# Altium schematic symbol library XC7A35T-2FGG484I.SchLib: 1 symbol
Pins are listed as number, name and electrical type; pins without a type are passive.

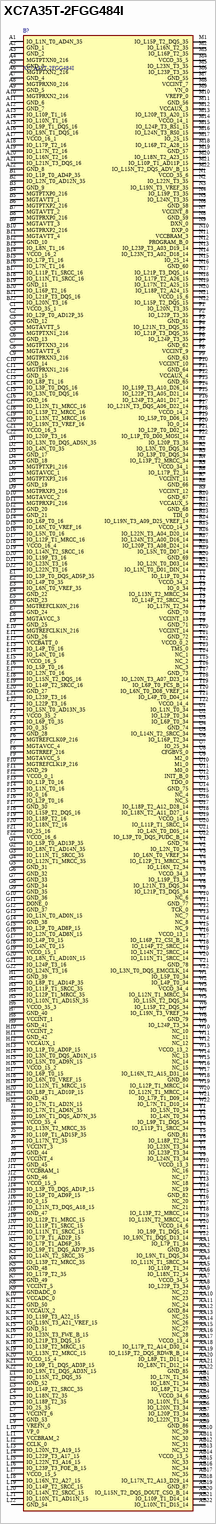
[diagram p0: symbol XC7A35T-2FGG484I]

## XC7A35T-2FGG484I
designator B?
XILINX - XC7A35T-2FGG484I - FPGA, ARTIX-7, 250 I/O, FPBGA-484; Manufacturer_Name: AMD; Geometry.Height: 2.6mm; Mouser Part Number: 217-XC7A35T-2FGG484I; Mouser Price/Stock: https://www.mouser.co.uk/ProductDetail/AMD-Xilinx/XC7A35T-2FGG484I?qs=rrS6PyfT74daD2uf98yQdQ%3D%3D; Manufacturer_Part_Number: XC7A35T-2FGG484I; Datasheet Link: https://www.xilinx.com/support/documentation/data_sheets/ds181_Artix_7_Data_Sheet.pdf
footprint BGA484C100P22X22_2300X2300X260
pins: A1 IO_L1N_T0_AD4N_35, A2 GND_1, A3 GND_2, A4 MGTPTXN0_216, A5 GND_3, A6 MGTPTXN2_216, A7 GND_4, A8 MGTPRXN0_216, A9 GND_5, A10 MGTPRXN2_216, A11 GND_6, A12 GND_7, A13 IO_L10P_T1_16, A14 IO_L10N_T1_16, A15 IO_L9P_T1_DQS_16, A16 IO_L9N_T1_DQS_16, A17 VCCO_16_1, A18 IO_L17P_T2_16, A19 IO_L17N_T2_16, A20 IO_L16N_T2_16, A21 IO_L21N_T3_DQS_16, A22 GND_8, AA1 IO_L7P_T1_34, AA2 GND_83, AA3 IO_L9N_T1_DQS_34, AA4 IO_L11N_T1_SRCC_34, AA5 IO_L10P_T1_34, AA6 IO_L18N_T2_34, AA7 VCCO_34_5, AA8 IO_L22P_T3_34, AA9 NC_22, AA10 NC_23, AA11 NC_24, AA12 GND_84, AA13 NC_25, AA14 NC_26, AA15 NC_27, AA16 NC_28, AA17 VCCO_13_4, AA18 IO_L17P_T2_A14_D30_14, AA19 IO_L15P_T2_DQS_RDWR_B_14, AA20 IO_L8P_T1_D11_14, AA21 IO_L8N_T1_D12_14, AA22 GND_85, AB1 IO_L7N_T1_34, AB2 IO_L8N_T1_34, AB3 IO_L8P_T1_34, AB4 VCCO_34_6, AB5 IO_L10N_T1_34, AB6 IO_L20N_T3_34, AB7 IO_L20P_T3_34, AB8 IO_L22N_T3_34, AB9 GND_86, AB10 NC_29, AB11 NC_30, AB12 NC_31, AB13 NC_32, AB14 VCCO_13_5, AB15 NC_33, AB16 NC_34, AB17 NC_35, AB18 IO_L17N_T2_A13_D29_14, AB19 GND_87, AB20 IO_L15N_T2_DQS_DOUT_CSO_B_14, AB21 IO_L10P_T1_D14_14, AB22 IO_L10N_T1_D15_14, B1 IO_L1P_T0_AD4P_35, B2 IO_L2N_T0_AD12N_35, B3 GND_9, B4 MGTPTXP0_216, B5 MGTAVTT_1, B6 MGTPTXP2_216, B7 MGTAVTT_2, B8 MGTPRXP0_216, B9 MGTAVTT_3, B10 MGTPRXP2_216, B11 MGTAVTT_4, B12 GND_10, B13 IO_L8N_T1_16, B14 VCCO_16_2, B15 IO_L7P_T1_16, B16 IO_L7N_T1_16, B17 IO_L11P_T1_SRCC_16, B18 IO_L11N_T1_SRCC_16, B19 GND_11, B20 IO_L16P_T2_16, B21 IO_L21P_T3_DQS_16, B22 IO_L20N_T3_16, C1 VCCO_35_1, C2 IO_L2P_T0_AD12P_35, C3 GND_12, C4 MGTAVTT_5, C5 MGTPTXN1_216, C6 GND_13, C7 MGTPTXN3_216, C8 MGTAVTT_6, C9 MGTPRXN3_216, C10 GND_14, C11 MGTPRXN1_216, C12 GND_15, C13 IO_L8P_T1_16, C14 IO_L3P_T0_DQS_16, C15 IO_L3N_T0_DQS_16, C16 GND_16, C17 IO_L12N_T1_MRCC_16, C18 IO_L13P_T2_MRCC_16, C19 IO_L13N_T2_MRCC_16, C20 IO_L19N_T3_VREF_16, C21 VCCO_16_3, C22 IO_L20P_T3_16, D1 IO_L3N_T0_DQS_AD5N_35, D2 IO_L4N_T0_35, D3 GND_17, D4 GND_18, D5 MGTPTXP1_216, D6 MGTAVCC_1, D7 MGTPTXP3_216, D8 GND_19, D9 MGTPRXP3_216, D10 MGTAVCC_2, D11 MGTPRXP1_216, D12 GND_20, D13 GND_21, D14 IO_L6P_T0_16, D15 IO_L6N_T0_VREF_16, D16 IO_L5N_T0_16, D17 IO_L12P_T1_MRCC_16, D18 VCCO_16_4, D19 IO_L14N_T2_SRCC_16, D20 IO_L19P_T3_16, D21 IO_L23N_T3_16, D22 IO_L22N_T3_16, E1 IO_L3P_T0_DQS_AD5P_35, E2 IO_L4P_T0_35, E3 IO_L6N_T0_VREF_35, E4 GND_22, E5 GND_23, E6 MGTREFCLK0N_216, E7 GND_24, E8 MGTAVCC_3, E9 GND_25, E10 MGTREFCLK1N_216, E11 GND_26, E12 VCCBATT_0, E13 IO_L4P_T0_16, E14 IO_L4N_T0_16, E15 VCCO_16_5, E16 IO_L5P_T0_16, E17 IO_L2N_T0_16, E18 IO_L15N_T2_DQS_16, E19 IO_L14P_T2_SRCC_16, E20 GND_27, E21 IO_L23P_T3_16, E22 IO_L22P_T3_16, F1 IO_L5N_T0_AD13N_35, F2 VCCO_35_2, F3 IO_L6P_T0_35, F4 IO_0_35, F5 GND_28, F6 MGTREFCLK0P_216, F7 MGTAVCC_4, F8 MGTRREF_216, F9 MGTAVCC_5, F10 MGTREFCLK1P_216, F11 GND_29, F12 VCCO_0_1, F13 IO_L1P_T0_16, F14 IO_L1N_T0_16, F15 IO_0_16, F16 IO_L2P_T0_16, F17 GND_30, F18 IO_L15P_T2_DQS_16, F19 IO_L18P_T2_16, F20 IO_L18N_T2_16, F21 IO_25_16, F22 VCCO_16_6, G1 IO_L5P_T0_AD13P_35, G2 IO_L8N_T1_AD14N_35, G3 IO_L11N_T1_SRCC_35, G4 IO_L12N_T1_MRCC_35, G5 GND_31, G6 GND_32, G7 GND_33, G8 GND_34, G9 GND_35, G10 GND_36, G11 DONE_0, G12 GND_37, G13 IO_L1N_T0_AD0N_15, G14 GND_38, G15 IO_L2P_T0_AD8P_15, G16 IO_L2N_T0_AD8N_15, G17 IO_L4P_T0_15, G18 IO_L4N_T0_15, G19 VCCO_15_1, G20 IO_L8N_T1_AD10N_15, G21 IO_L24P_T3_16, G22 IO_L24N_T3_16, H1 GND_39, H2 IO_L8P_T1_AD14P_35, H3 IO_L11P_T1_SRCC_35, H4 IO_L12P_T1_MRCC_35, H5 IO_L10N_T1_AD15N_35, H6 VCCO_35_3, H7 GND_40, H8 VCCINT_1, H9 GND_41, H10 VCCINT_2, H11 GND_42, H12 VCCAUX_1, H13 IO_L1P_T0_AD0P_15, H14 IO_L3N_T0_DQS_AD1N_15, H15 IO_L5N_T0_AD9N_15, H16 VCCO_15_2, H17 IO_L6P_T0_15, H18 IO_L6N_T0_VREF_15, H19 IO_L12N_T1_MRCC_15, H20 IO_L8P_T1_AD10P_15, H21 GND_43, H22 IO_L7N_T1_AD2N_15, J1 IO_L7N_T1_AD6N_35, J2 IO_L9N_T1_DQS_AD7N_35, J3 VCCO_35_4, J4 IO_L13N_T2_MRCC_35, J5 IO_L10P_T1_AD15P_35, J6 IO_L17N_T2_35, J7 VCCINT_3, J8 GND_44, J9 VCCINT_4, J10 GND_45, J11 VCCBRAM_1, J12 GND_46, J13 VCCO_15_3, J14 IO_L3P_T0_DQS_AD1P_15, J15 IO_L5P_T0_AD9P_15, J16 IO_0_15, J17 IO_L21N_T3_DQS_A18_15, J18 GND_47, J19 IO_L12P_T1_MRCC_15, J20 IO_L11P_T1_SRCC_15, J21 IO_L11N_T1_SRCC_15, J22 IO_L7P_T1_AD2P_15, K1 IO_L7P_T1_AD6P_35, K2 IO_L9P_T1_DQS_AD7P_35, K3 IO_L14N_T2_SRCC_35, K4 IO_L13P_T2_MRCC_35, K5 GND_48, K6 IO_L17P_T2_35, K7 GND_49, K8 VCCINT_5, K9 GNDADC_0, K10 VCCADC_0, K11 GND_50, K12 VCCAUX_2, K13 IO_L19P_T3_A22_15, K14 IO_L19N_T3_A21_VREF_15, K15 GND_51, K16 IO_L23N_T3_FWE_B_15, K17 IO_L21P_T3_DQS_15, K18 IO_L13P_T2_MRCC_15, K19 IO_L13N_T2_MRCC_15, K20 VCCO_15_4, K21 IO_L9P_T1_DQS_AD3P_15, K22 IO_L9N_T1_DQS_AD3N_15, L1 IO_L15N_T2_DQS_35, L2 GND_52, L3 IO_L14P_T2_SRCC_35, L4 IO_L18N_T2_35, L5 IO_L18P_T2_35, L6 IO_25_35, L7 VCCINT_6, L8 GND_53, L9 VREFN_0, L10 VP_0, L11 VCCBRAM_2, L12 CCLK_0, L13 IO_L20N_T3_A19_15, L14 IO_L22P_T3_A17_15, L15 IO_L22N_T3_A16_15, L16 IO_L23P_T3_FOE_B_15, L17 VCCO_15_5, L18 IO_L16N_T2_A27_15, L19 IO_L14P_T2_SRCC_15, L20 IO_L14N_T2_SRCC_15, L21 IO_L10N_T1_AD11N_15, L22 GND_54, M1 IO_L15P_T2_DQS_35, M2 IO_L16N_T2_35, M3 IO_L16P_T2_35, M4 VCCO_35_5, M5 IO_L23N_T3_35, M6 IO_L23P_T3_35, M7 GND_55, M8 VCCINT_7, M9 VN_0, M10 VREFP_0, M11 GND_56, M12 VCCAUX_3, M13 IO_L20P_T3_A20_15, M14 VCCO_14_1, M15 IO_L24P_T3_RS1_15, M16 IO_L24N_T3_RS0_15, M17 IO_25_15, M18 IO_L16P_T2_A28_15, M19 GND_57, M20 IO_L18N_T2_A23_15, M21 IO_L10P_T1_AD11P_15, M22 IO_L15N_T2_DQS_ADV_B_15, N1 VCCO_35_6, N2 IO_L22N_T3_35, N3 IO_L19N_T3_VREF_35, N4 IO_L19P_T3_35, N5 IO_L24N_T3_35, N6 GND_58, N7 VCCINT_8, N8 GND_59, N9 DXN_0, N10 DXP_0, N11 VCCBRAM_3, N12 PROGRAM_B_0, N13 IO_L23P_T3_A03_D19_14, N14 IO_L23N_T3_A02_D18_14, N15 IO_25_14, N16 GND_60, N17 IO_L21P_T3_DQS_14, N18 IO_L17P_T2_A26_15, N19 IO_L17N_T2_A25_15, N20 IO_L18P_T2_A24_15, N21 VCCO_15_6, N22 IO_L15P_T2_DQS_15, P1 IO_L20N_T3_35, P2 IO_L22P_T3_35, P3 GND_61, P4 IO_L21N_T3_DQS_35, P5 IO_L21P_T3_DQS_35, P6 IO_L24P_T3_35, P7 GND_62, P8 VCCINT_9, P9 GND_63, P10 VCCINT_10, P11 GND_64, P12 VCCAUX_4, P13 GND_65, P14 IO_L19P_T3_A10_D26_14, P15 IO_L22P_T3_A05_D21_14, P16 IO_L24P_T3_A01_D17_14, P17 IO_L21N_T3_DQS_A06_D22_14, P18 VCCO_14_2, P19 IO_L5P_T0_D06_14, P20 IO_0_14, P21 IO_L2P_T0_D02_14, P22 IO_L1P_T0_D00_MOSI_14, R1 IO_L20P_T3_35, R2 IO_L3N_T0_DQS_34, R3 IO_L3P_T0_DQS_34, R4 IO_L13P_T2_MRCC_34, R5 VCCO_34_1, R6 IO_L17P_T2_34, R7 VCCINT_11, R8 GND_66, R9 VCCINT_12, R10 GND_67, R11 VCCAUX_5, R12 GND_68, R13 TDI_0, R14 IO_L19N_T3_A09_D25_VREF_14, R15 VCCO_14_3, R16 IO_L22N_T3_A04_D20_14, R17 IO_L24N_T3_A00_D16_14, R18 IO_L20P_T3_A08_D24_14, R19 IO_L5N_T0_D07_14, R20 GND_69, R21 IO_L2N_T0_D03_14, R22 IO_L1N_T0_D01_DIN_14, T1 IO_L1P_T0_34, T2 VCCO_34_2, T3 IO_0_34, T4 IO_L13N_T2_MRCC_34, T5 IO_L14P_T2_SRCC_34, T6 IO_L17N_T2_34, T7 GND_70, T8 VCCINT_13, T9 GND_71, T10 VCCINT_14, T11 GND_72, T12 VCCO_0_2, T13 TMS_0, T14 NC_1, T15 NC_2, T16 NC_3, T17 GND_73, T18 IO_L20N_T3_A07_D23_14, T19 IO_L6P_T0_FCS_B_14, T20 IO_L6N_T0_D08_VREF_14, T21 IO_L4P_T0_D04_14, T22 VCCO_14_4, U1 IO_L1N_T0_34, U2 IO_L2P_T0_34, U3 IO_L6P_T0_34, U4 GND_74, U5 IO_L14N_T2_SRCC_34, U6 IO_L16P_T2_34, U7 IO_25_34, U8 CFGBVS_0, U9 M2_0, U10 M1_0, U11 M0_0, U12 INIT_B_0, U13 TDO_0, U14 GND_75, U15 NC_4, U16 NC_5, U17 IO_L18P_T2_A12_D28_14, U18 IO_L18N_T2_A11_D27_14, U19 VCCO_14_5, U20 IO_L11P_T1_SRCC_14, U21 IO_L4N_T0_D05_14, U22 IO_L3P_T0_DQS_PUDC_B_14, V1 GND_76, V2 IO_L2N_T0_34, V3 IO_L6N_T0_VREF_34, V4 IO_L12P_T1_MRCC_34, V5 IO_L16N_T2_34, V6 VCCO_34_3, V7 IO_L19P_T3_34, V8 IO_L21N_T3_DQS_34, V9 IO_L21P_T3_DQS_34, V10 NC_6, V11 GND_77, V12 TCK_0, V13 NC_7, V14 NC_8, V15 NC_9, V16 VCCO_13_1, V17 IO_L16P_T2_CSI_B_14, V18 IO_L14P_T2_SRCC_14, V19 IO_L14N_T2_SRCC_14, V20 IO_L11N_T1_SRCC_14, V21 GND_78, V22 IO_L3N_T0_DQS_EMCCLK_14, W1 IO_L5P_T0_34, W2 IO_L4P_T0_34, W3 VCCO_34_4, W4 IO_L12N_T1_MRCC_34, W5 IO_L15N_T2_DQS_34, W6 IO_L15P_T2_DQS_34, W7 IO_L19N_T3_VREF_34, W8 GND_79, W9 IO_L24P_T3_34, W10 NC_10, W11 NC_11, W12 NC_12, W13 VCCO_13_2, W14 NC_13, W15 NC_14, W16 NC_15, W17 IO_L16N_T2_A15_D31_14, W18 GND_80, W19 IO_L12P_T1_MRCC_14, W20 IO_L12N_T1_MRCC_14, W21 IO_L7P_T1_D09_14, W22 IO_L7N_T1_D10_14, Y1 IO_L5N_T0_34, Y2 IO_L4N_T0_34, Y3 IO_L9P_T1_DQS_34, Y4 IO_L11P_T1_SRCC_34, Y5 GND_81, Y6 IO_L18P_T2_34, Y7 IO_L23N_T3_34, Y8 IO_L23P_T3_34, Y9 IO_L24N_T3_34, Y10 VCCO_13_3, Y11 NC_16, Y12 NC_17, Y13 NC_18, Y14 NC_19, Y15 GND_82, Y16 NC_20, Y17 NC_21, Y18 IO_L13P_T2_MRCC_14, Y19 IO_L13N_T2_MRCC_14, Y20 VCCO_14_6, Y21 IO_L9P_T1_DQS_14, Y22 IO_L9N_T1_DQS_D13_14